# EAGLE library part DIT4192 (library BurrBrownAudioParts)
DIT4192: 192kHz Digital Audio Transmitter (Rev. B) The DIT4192 is a digital audio transmitter designed for use in both professional and consumer audio aplications. Transmit data rates up to 192kHz are supported. The DIT4192 supports both software and hardware operation, which makes it suitable for applicaitons with or without a microcontroller. A flexible serial audio interface is provided, supporting standard audio data formats and easy interfacing to audio DSP serial ports.
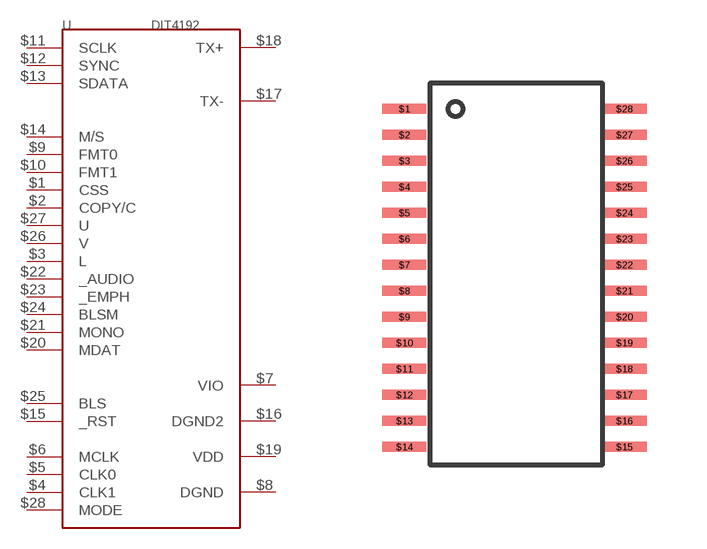
[diagram p12: symbol with the pads of TSSOP-28; footprint TSSOP-28]

Designator prefix -

## DIT4192  [TSSOP-28]
$1  CSS
$2  COPY/C
$3  L
$4  CLK1
$5  CLK0
$6  MCLK
$7  VIO
$8  DGND
$9  FMT0
$10  FMT1
$11  SCLK
$12  SYNC
$13  SDATA
$14  M/S
$15  _RST
$16  DGND2
$17  TX-
$18  TX+
$19  VDD
$20  MDAT
$21  MONO
$22  _AUDIO
$23  _EMPH
$24  BLSM
$25  BLS
$26  V
$27  U
$28  MODE

## Footprint TSSOP-28 (pad centres in mm)
smd 1.1 x 0.25: $1 0,0; $2 0,-0.65; $3 0,-1.3; $4 0,-1.95; $5 0,-2.6; $6 0,-3.25; $7 0,-3.9; $8 0,-4.55; $9 0,-5.2; $10 0,-5.85; $11 0,-6.5; $12 0,-7.15; $13 0,-7.8; $14 0,-8.45; $15 5.5,-8.45; $16 5.5,-7.8; $17 5.5,-7.15; $18 5.5,-6.5; $19 5.5,-5.85; $20 5.5,-5.2; $21 5.5,-4.55; $22 5.5,-3.9; $23 5.5,-3.25; $24 5.5,-2.6; $25 5.5,-1.95; $26 5.5,-1.3; $27 5.5,-0.65; $28 5.5,0